# EAGLE library part MODULE_MRF24WBOMA (library dp_devices)
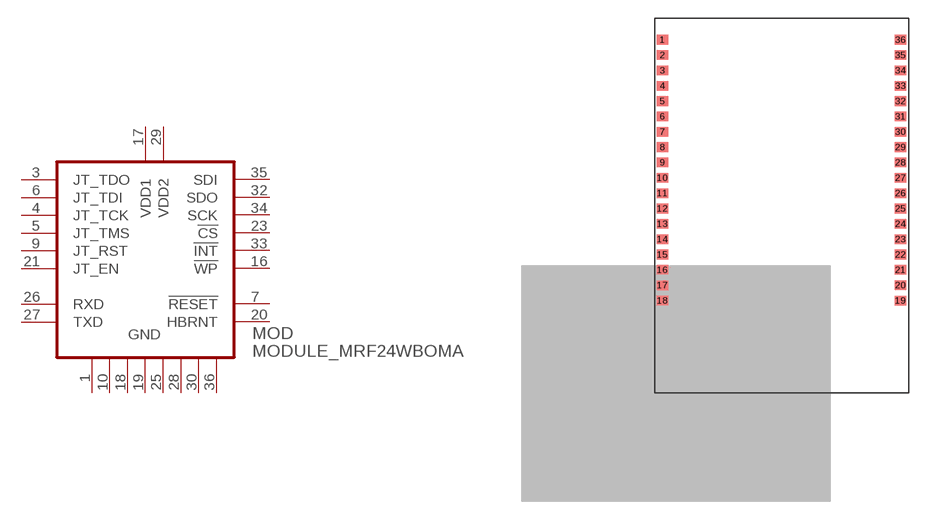
[diagram p89: symbol with the pads of MRF24WBOMA; footprint MRF24WBOMA]

Designator prefix MOD

## MODULE_MRF24WBOMA  [MRF24WBOMA]
1  GND1  pwr
3  JT_TDO
4  JT_TCK
5  JT_TMS
6  JT_TDI
7  !RESET
9  JT_RST
10  GND2  pwr
16  !WP
17  VDD1
18  GND3  pwr
19  GND4  pwr
20  HBRNT
21  JT_EN
23  !CS
25  GND5  pwr
26  RXD
27  TXD
28  GND6  pwr
29  VDD2
30  GND7  pwr
32  SDO
33  !INT
34  SCK
35  SDI
36  GND8  pwr

## Footprint MRF24WBOMA (pad centres in mm)
smd 0.95 x 0.8: 1 -9.865,13.71; 2 -9.865,12.44; 3 -9.865,11.17; 4 -9.865,9.9; 5 -9.865,8.63; 6 -9.865,7.36; 7 -9.865,6.09; 8 -9.865,4.82; 9 -9.865,3.55; 10 -9.865,2.28; 11 -9.865,1.01; 12 -9.865,-0.26; 13 -9.865,-1.53; 14 -9.865,-2.8; 15 -9.865,-4.07; 16 -9.865,-5.34; 17 -9.865,-6.61; 18 -9.865,-7.88; 19 9.82,-7.88; 20 9.82,-6.61; 21 9.82,-5.34; 22 9.82,-4.07; 23 9.82,-2.8; 24 9.82,-1.53; 25 9.82,-0.26; 26 9.82,1.01; 27 9.82,2.28; 28 9.82,3.55; 29 9.82,4.82; 30 9.82,6.09; 31 9.82,7.36; 32 9.82,8.63; 33 9.82,9.9; 34 9.82,11.17; 35 9.82,12.44; 36 9.82,13.71